# Altium schematic symbol library TXB0104.SchLib: 1 symbol
Pins are listed as number, name and electrical type; pins without a type are passive.

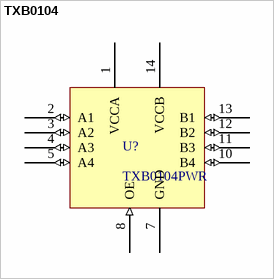
[diagram p0: symbol TXB0104]

## TXB0104
designator U?, comment TXB0104PWR
TXB0104PWR - IC, SM, LOGIC, TRANSLATOR; farnell: 1607891
footprint TXB0104PWR (TXB0104PWR - IC, SM, LOGIC, TRANSLATOR)
pins: 1 VCCA (power), 2 A1 (io), 3 A2 (io), 4 A3 (io), 5 A4 (io), 7 GND (power), 8 OE (in), 10 B4 (io), 11 B3 (io), 12 B2 (io), 13 B1 (io), 14 VCCB (power)